# EAGLE library part MULTIVIBRATOR_DUAL (library Schuyler)
Dual monostable multivibrator. Standard 4098 chip.
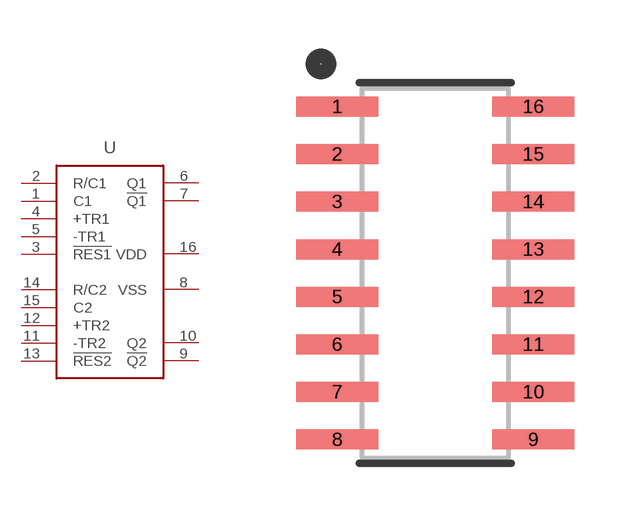
[diagram p28: symbol with the pads of SO-16_SSG; footprint SO-16_SSG]

Designator prefix -

## MULTIVIBRATOR_DUAL (MANPARTNUMBER: CD4098BM; MANUFACTURER: Texas Instruments; PARTNUMBER: 296-16736-5-ND; SUPPLIER: DIGIKEY; VERIFIED: FALSE)  [SO-16_SSG]
1  C1
2  R/C1
3  !RES1  in
4  +TR1  in
5  -TR1  in
6  Q1  out
7  !Q1  out
8  VSS  pas
9  !Q2  out
10  Q2  out
11  -TR2  in
12  +TR2  in
13  !RES2  in
14  R/C2
15  C2
16  VDD  pas

## Footprint SO-16_SSG (pad centres in mm)
SO-16 as described by STMicro. http://www.st.com/web/en/resource/technical/document/datasheet/CD00001703.pdf
smd 2.184 x 0.533: 1 -2.616,4.445; 2 -2.616,3.175; 3 -2.616,1.905; 4 -2.616,0.635; 5 -2.616,-0.635; 6 -2.616,-1.905; 7 -2.616,-3.175; 8 -2.616,-4.445; 9 2.616,-4.445; 10 2.616,-3.175; 11 2.616,-1.905; 12 2.616,-0.635; 13 2.616,0.635; 14 2.616,1.905; 15 2.616,3.175; 16 2.616,4.445